# EAGLE library part 20PIN_10X2_.100IN (library Custom)
20 Pin 10x2 .1 in header
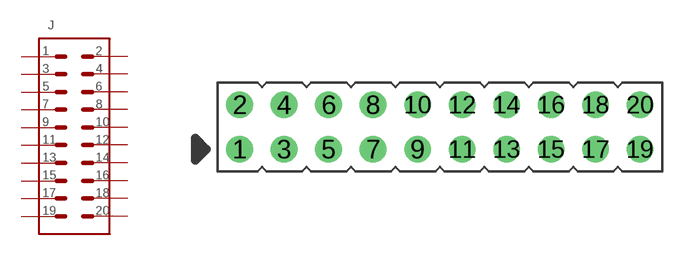
[diagram p11: symbol with the pads of 20-PIN_10X2_.100IN; footprint 20-PIN_10X2_.100IN]

Designator prefix J

## 20PIN_10X2_.100IN  [20-PIN_10X2_.100IN]
1  S1  pas
2  S2  pas
3  S3  pas
4  S4  pas
5  S5  pas
6  S6  pas
7  S7  pas
8  S8  pas
9  S9  pas
10  S10  pas
11  S11  pas
12  S12  pas
13  S13  pas
14  S14  pas
15  S15  pas
16  S16  pas
17  S17  pas
18  S18  pas
19  S19  pas
20  S20  pas

## Footprint 20-PIN_10X2_.100IN (pad centres in mm)
drill 1.016: 1 -8.89,-2.54; 2 -8.89,0; 3 -6.35,-2.54; 4 -6.35,0; 5 -3.81,-2.54; 6 -3.81,0; 7 -1.27,-2.54; 8 -1.27,0; 9 1.27,-2.54; 10 1.27,0; 11 3.81,-2.54; 12 3.81,0; 13 6.35,-2.54; 14 6.35,0; 15 8.89,-2.54; 16 8.89,0; 17 11.43,-2.54; 18 11.43,0; 19 13.97,-2.54; 20 13.97,0